# EAGLE library part TSW-105-02-S-Q (library con-samtec)
THROUGH-HOLE .025" SQ POST HEADER Source: Samtec TSW.pdf
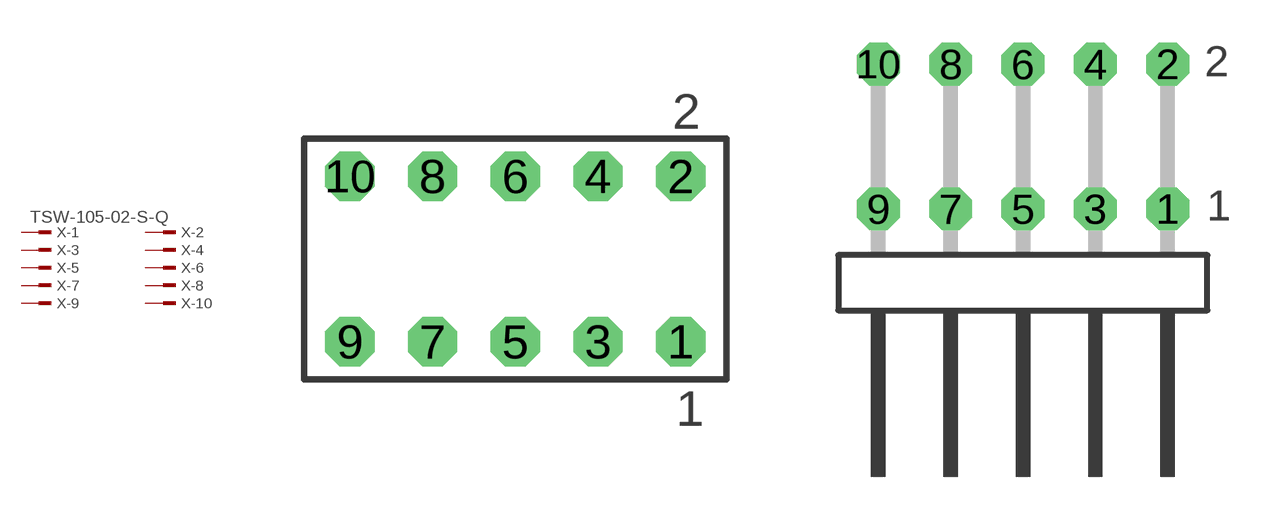
[diagram p285: symbol with the pads of TSW-105-02-S-Q; footprints TSW-105-02-S-Q, TSW-105-02-S-Q-RA]

Designator prefix X; gates -1=MPINV -2=MPIN -3=MPIN -4=MPIN -5=MPIN -6=MPIN -7=MPIN -8=MPIN -9=MPIN -10=MPIN

## TSW-105-02-S-Q (OC_FARNELL: unknown; OC_NEWARK: unknown)  [TSW-105-02-S-Q]
1  -1:1  pas
2  -2:1  pas
3  -3:1  pas
4  -4:1  pas
5  -5:1  pas
6  -6:1  pas
7  -7:1  pas
8  -8:1  pas
9  -9:1  pas
10  -10:1  pas

## TSW-105-02-S-Q-RA (OC_FARNELL: unknown; OC_NEWARK: unknown)  [TSW-105-02-S-Q-RA]
Pads as for TSW-105-02-S-Q

## Footprint TSW-105-02-S-Q (pad centres in mm)
THROUGH-HOLE .025" SQ POST HEADER Source: Samtec TSW.pdf
drill 1 pad 1.5 octagon: 1 5.08,-2.54; 2 5.08,2.54; 3 2.54,-2.54; 4 2.54,2.54; 5 0,-2.54; 6 0,2.54; 7 -2.54,-2.54; 8 -2.54,2.54; 9 -5.08,-2.54; 10 -5.08,2.54

## Footprint TSW-105-02-S-Q-RA (pad centres in mm)
THROUGH-HOLE .025" SQ POST HEADER Source: Samtec TSW.pdf
drill 1 pad 1.5 octagon: 1 5.08,1.524; 2 5.08,6.604; 3 2.54,1.524; 4 2.54,6.604; 5 0,1.524; 6 0,6.604; 7 -2.54,1.524; 8 -2.54,6.604; 9 -5.08,1.524; 10 -5.08,6.604